# Altium footprint library HZK_IC.PcbLib: 20 footprints (part 2 of 2)
Each footprint in its own frame and in the unit in brackets; x right, y up, seen from the top. Pads: shape width x height; smd on the part's side, far side on the other; paste and mask are expansions set on the pad; w line width, h text height; cw(c..) or ccw(c..) is an arc to the next point about the centre after c.
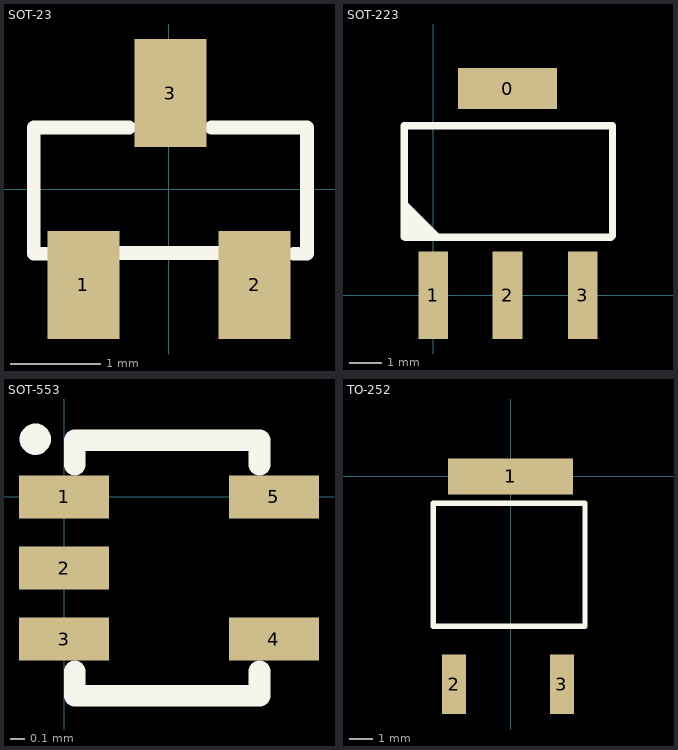
[diagram p1: the footprints below, top view; thin cyan lines are the x and y axes]

## SOT-23 [mm]
pads (3):
  rect 0.8x1.2 smd: 1(-0.95,-1.066) 2(0.95,-1.066) 3(0.015,1.066)
Top Overlay:
  lines w0.152: -1.356,-0.718 -1.503,-0.718 -1.503,0.682 -0.442,0.682 ; -0.544,-0.71 0.549,-0.71 ; 0.472,0.682 1.533,0.682 1.533,-0.718 1.387,-0.718
3D body "SOT-23.step": height 1.08, standoff -0.02, extent -1.5,-1.25 1.5,1.25

## SOT-223 [mil]
height 47.24
pads (4):
  rect 120x50 smd: 0(90,250)
  rect 36x106 smd: 1(0,0) 2(90,0) 3(181.1,0)
Top Overlay:
  lines w9: -35,71 -35,205 216.97,205 216.97,71.97 ; -35,81 -35,79 -26,70 ; -35,88 -35,86 -19,70 ; -35,96 -11,72 ; -35,102 -3,70 -2,70 ; -35,110 5,70 6,70 ; -34,70 215,70
  lines w9.06: -35,71 -34,70 ; 215,70 216.97,71.97
3D body "SOT-223.step": height 65.75, standoff -0.39, extent -37.95,-12.01 217.95,262.01

## SOT-553 [mil]
pads (5):
  rect 25x12 smd: 1(0,0) 2(0,-19.69) 3(0,-39.37) 4(58.12,-39.37) 5(58.12,0)
Top Overlay:
  circle w4.72: c-8,16 r1.97
  lines w6: 2.97,-48.34 2.97,-55.12 54.15,-55.1 54.15,-48.32 ; 2.97,8.97 2.97,15.75 54.15,15.75 54.15,8.97
3D body "SOT-553.STEP": height 18.76, standoff -0.97, extent -2.43,-51.18 60.56,11.81

## TO-252 [mil]
height 47.24
pads (3):
  rect 210x60 smd: 1(0,0)
  rect 40x100 smd: 2(-95,-349.06) 3(86.1,-349.06)
Top Overlay:
  lines w9.06: 125,-251.54 -130,-251.54 -130,-45 125,-45 125,-250
3D body "SW3dPS-DPAK-1.STEP": height 94.98, standoff -0.1, extent -133.74,-360 123.74,31.27